# Altium schematic symbol library Разное_discrete.SchLib: 43 symbols
Pins are listed as number, name and electrical type; pins without a type are passive.

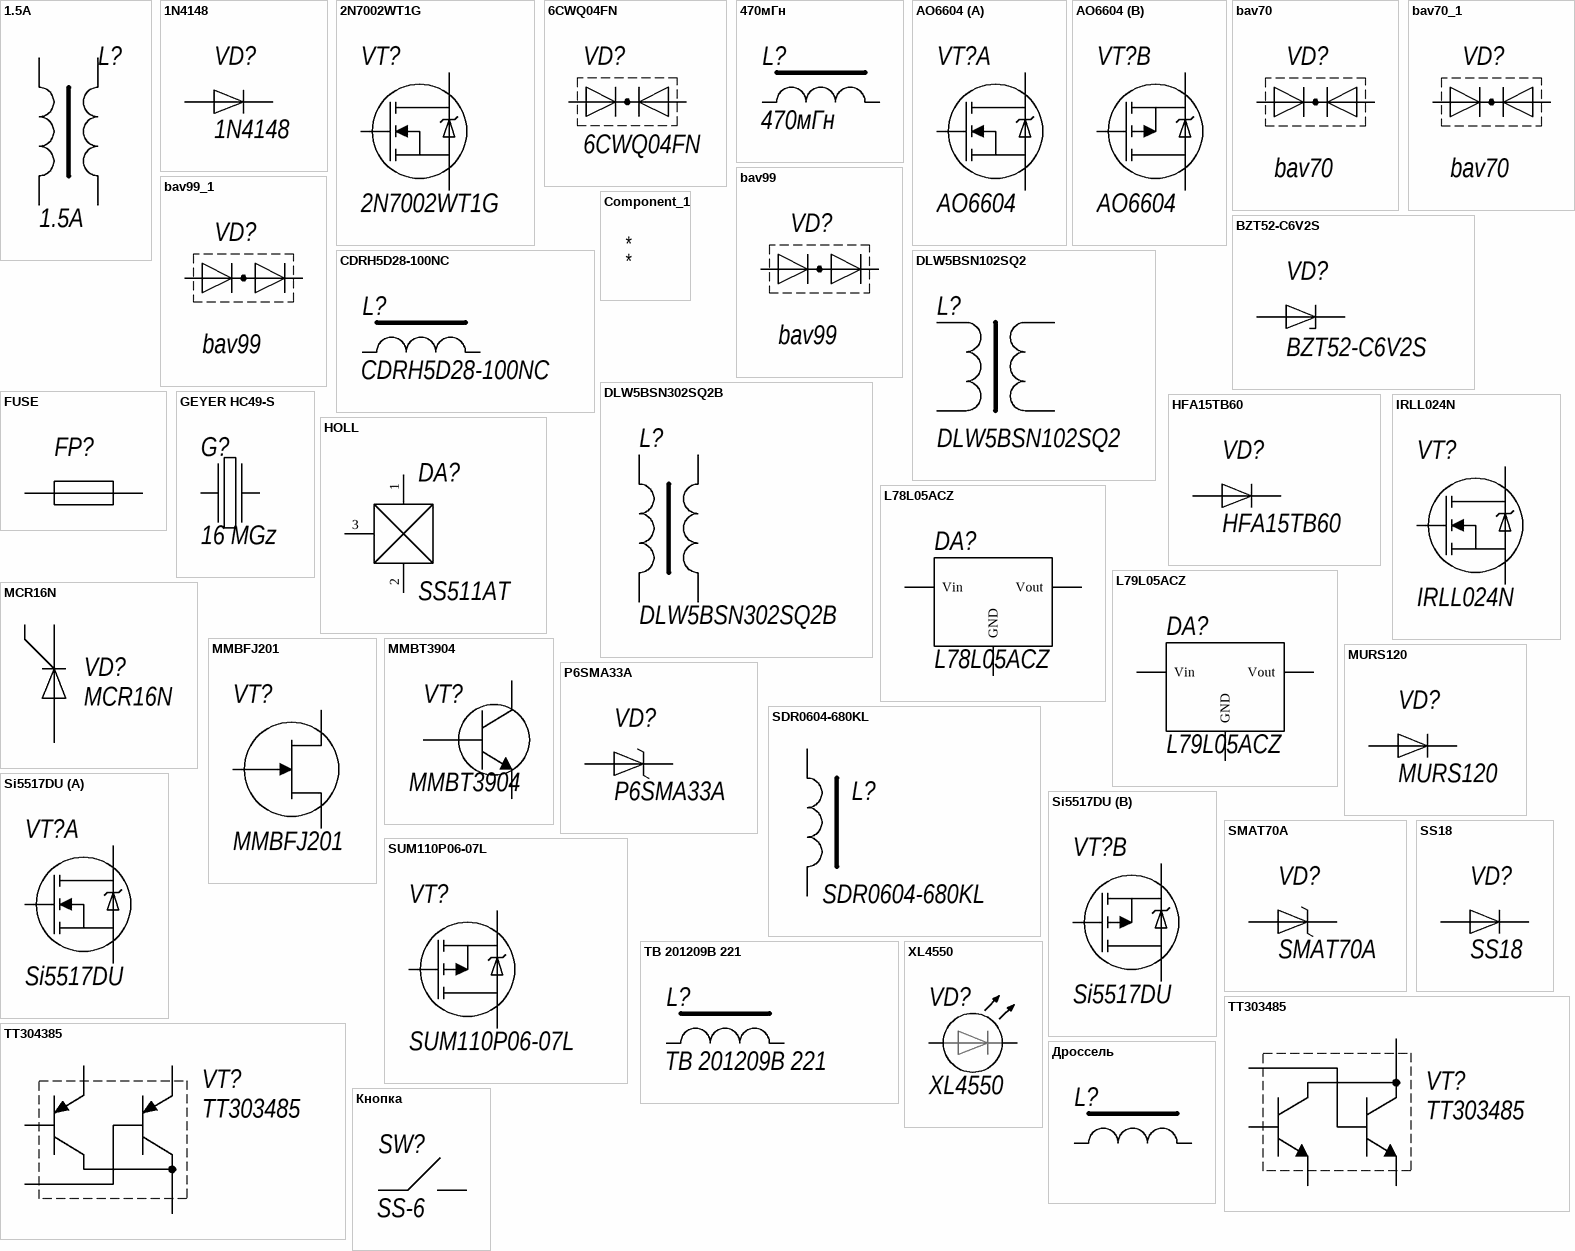
[diagram p0: symbols 1.5A to Кнопка]

## 1.5A
designator L?
Дросель намотаный; LatestRevisionDate: 1.5A; Name: 1.5A; OutComment: 1.5A; PackageDescription: 1.5A; Publisher: IMTP FEB RAS
footprint ХХХ (Дросель намотаный)
footprint Дроссель 19х11х6,7 - синфазный
pins: 1, 1 4, 2, 3

## 1N4148
designator VD?
DIODE; LastRevisionDate: 11.06.2010; Name: 1N4148; OutComment: 1N4148; PackageDescription: Диод 0805; Publisher: IMTP FEB RAS
footprint Диод 0805
pins: 1 Out, 2 IN

## 2N7002WT1G
designator VT?
Транзистор; LastRevisionDate: 11.06.2010; Name: 2N7002WT1G; OutComment: 2N7002WT1G; PackageDescription: TSOP; Publisher: IMTP FEB RAS
footprint SOT-323
pins: 1 G, 2 S, 3 D

## 6CWQ04FN
designator VD?
DIODE; LastRevisionDate: 11.06.2010; Name: 6CWQ04FN; OutComment: 6CWQ04FN; PackageDescription: d-pak; Publisher: IMTP FEB RAS
footprint TO-252AA (D-PAK/TO-252-AA; 3 Leads (1 Cropped); Body 10.4 (inc. leads) x 6.7 mm (LxW max))
pins: 1, 3, 4

## 470мГн
designator L?
Индуктивность; LatestRevisionDate: 25.03.2010; Name: 470мГн; OutComment: 470мГн; PackageDescription: SMD; Publisher: IMTP FEB RAS
pins: 1, 2

## AO6604
designator VT?
Транзистор; LastRevisionDate: 11.06.2010; Name: AO6604; OutComment: AO6604; PackageDescription: TSOP; Publisher: IMTP FEB RAS
footprint TSOP6 (TSOP, 8-Leads, Body 3x3mm, Pitch 0.65mm, IPC Medium Density)
part A pins: 1 G, 5 S, 6 D
part B pins: 2 D, 3 G, 4 S

## bav70
designator VD?
DIODE; LastRevisionDate: 11.06.2010; Name: bav70; OutComment: bav70; PackageDescription: SOT-23; Publisher: IMTP FEB RAS
footprint SOT-23 (SOT-23; 3 Leads; Body 3.0 x 2.6 mm, inc. leads (LxW max))
pins: 1, 2, 3

## bav70_1
designator VD?, comment bav70
DIODE; LastRevisionDate: 11.06.2010; Name: bav70; OutComment: bav70; PackageDescription: SOT-23; Publisher: IMTP FEB RAS
footprint SOT-23 (SOT-23; 3 Leads; Body 3.0 x 2.6 mm, inc. leads (LxW max))
pins: 1, 2, 3

## bav99
designator VD?
DIODE; LastRevisionDate: 11.06.2010; Name: bav99; OutComment: bav99; PackageDescription: SOT-23; Publisher: IMTP FEB RAS
footprint SOT-23 (SOT-23; 3 Leads; Body 3.0 x 2.6 mm, inc. leads (LxW max))
pins: 1, 2, 3

## bav99_1
designator VD?, comment bav99
DIODE; LastRevisionDate: 11.06.2010; Name: bav99; OutComment: bav99; PackageDescription: SOT-23; Publisher: IMTP FEB RAS
footprint SOT-23 (SOT-23; 3 Leads; Body 3.0 x 2.6 mm, inc. leads (LxW max))
pins: 1, 2, 3

## BZT52-C6V2S
designator VD?
Стабилитрон; LastRevisionDate: 11.06.2010; Name: BZT52-C6V2S; OutComment: BZT52-C6V2S; PackageDescription: Диод 0805; Publisher: IMTP FEB RAS
footprint Диод 0805
footprint SMB (DO-214-AA/SMB; 2 C-Bend Leads; Body 5.3 x 3.6 mm, inc. leads (LxW))
pins: 1 Out, 2 IN

## CDRH5D28-100NC
designator L?
Индуктивный фильтр; LatestRevisionDate: 25.03.2010; Name: CDRH5D28-100NC; OutComment: CDRH5D28-100NC; PackageDescription: SMD; Publisher: IMTP FEB RAS
footprint CDRH5D28-100NC (Дросель СМД)
footprint SDR1005-R68ML (Дросель СМД)
pins: 1, 2

## Component_1
designator *

## DLW5BSN102SQ2
designator L?
Дросель СМД; LatestRevisionDate: DLW5BSN102SQ2; Name: DLW5BSN102SQ2; OutComment: DLW5BSN102SQ2; PackageDescription: XTAL50; Publisher: IMTP FEB RAS
footprint DLW5BSN102Q2 (Дросель СМД)
pins: 1, 2, 3, 4

## DLW5BSN302SQ2B
designator L?
Дросель СМД; LatestRevisionDate: DLW5BSN302SQ2B; Name: DLW5BSN302SQ2B; OutComment: DLW5BSN302SQ2B; PackageDescription: XTAL50; Publisher: IMTP FEB RAS
footprint DLW5BSN302Q2B (Дросель СМД)
pins: 1, 2, 3, 4

## FUSE
designator FP?, comment MF-SM050  (value not drawn)
FUSE; LastRevisionDate: 11.06.2010; Name: MF-SM050; OutComment: MF-SM050; Publisher: IMTP FEB RAS
footprint FUSE
footprint MF-SW030/050/100
pins: 1 Out, 2 IN

## GEYER HC49-S
designator G?, comment 16 MGz
Кварцевый резонатор Geyer; OutComment: GEYER KX-KH 16 МГц; LatestRevisionDate: 25.03.2010; Name: 16 MGz; PackageDescription: XTAL50; Publisher: IMTP FEB RAS
footprint XTAL50
pins: 1, 2

## HFA15TB60
designator VD?
DIODE; LastRevisionDate: 11.06.2010; Name: HFA15TB60; OutComment: HFA15TB60; PackageDescription: Диод 0805; Publisher: IMTP FEB RAS
footprint TO-220 - DIODE
pins: 1 Out, 2 IN

## HOLL
designator DA?, comment SS511AT
HOLL; LastRevisionDate: 11.06.2010; Name: SS511AT; OutComment: SS511AT; PackageDescription: Диод 0805; Publisher: IMTP FEB RAS
pins: 1 +, 2 -, 3 O

## IRLL024N
designator VT?
Транзистор; LastRevisionDate: 11.06.2010; Name: IRLL024N; OutComment: IRLL024N; PackageDescription: TSOP; Publisher: IMTP FEB RAS
footprint SOT223-4L (SOT223, 4-Leads, Body 6.5x3.5mm, Pitch 2.3mm, Lead Span 7mm, IPC High Density)
pins: 1 G, 2 D, 3 S, 4 D

## L78L05ACZ
designator DA?
Стабилизатор; LatestRevisionDate: L78L05ACZ; Name: L78L05ACZ; OutComment: L78L05ACZ; PackageDescription: XTAL50; Publisher: IMTP FEB RAS
footprint L78L05ACZ (стабилизатор)
pins: 1 GND, 2 Vin, 3 Vout

## L79L05ACZ
designator DA?
Стабилизатор; LatestRevisionDate: L79L05ACZ; Name: L79L05ACZ; OutComment: L79L05ACZ; PackageDescription: XTAL50; Publisher: IMTP FEB RAS
footprint L79L05ACZ (стабилизатор)
pins: 1 GND, 2 Vin, 3 Vout

## MCR16N
designator VD?
400W SURFACE MOUNT TRANSIENT VOLTAGE SUPPRESSOR; LastRevisionDate: 11.06.2010; Name: MCR16N; OutComment: MCR16N; PackageDescription: SMB; Publisher: IMTP FEB RAS
footprint TO-220
pins: 1 К, 2 А, 3 УЭ

## MMBFJ201
designator VT?
Транзистор; LastRevisionDate: 11.06.2010; Name: MMBFJ201; OutComment: MMBFJ201; PackageDescription: SOT-23; Publisher: IMTP FEB RAS
footprint SOT-23 (SOT-23; 3 Leads; Body 3.0 x 2.6 mm, inc. leads (LxW max))
pins: 1 D, 2 S, 3 G

## MMBT3904
designator VT?
Транзистор; LastRevisionDate: 11.06.2010; Name: MMBT3904; OutComment: MMBT3904; PackageDescription: SOT-23; Publisher: IMTP FEB RAS
footprint SOT-23 (SOT-23; 3 Leads; Body 3.0 x 2.6 mm, inc. leads (LxW max))
pins: 1 IN, 2 S, 3 Vbb

## MURS120
designator VD?
DIODE; LastRevisionDate: 11.06.2010; Name: MURS120; OutComment: MURS120; PackageDescription: SMB; Publisher: IMTP FEB RAS
footprint SMB (DO-214-AA/SMB; 2 C-Bend Leads; Body 5.3 x 3.6 mm, inc. leads (LxW))
pins: 1 Out, 2 IN

## P6SMA33A
designator VD?
400W SURFACE MOUNT TRANSIENT VOLTAGE SUPPRESSOR; LastRevisionDate: 11.06.2010; Name: P6SMA33A; OutComment: P6SMA33A; PackageDescription: SMB; Publisher: IMTP FEB RAS
footprint SMB (DO-214-AA/SMB; 2 C-Bend Leads; Body 5.3 x 3.6 mm, inc. leads (LxW))
pins: 1 Out, 2 IN

## SDR0604-680KL
designator L?
Дросель СМД; LatestRevisionDate: SDR0604-680KL; Name: SDR0604-680KL; OutComment: SDR0604-680KL; PackageDescription: XTAL50; Publisher: IMTP FEB RAS
footprint SDR0604-680KL (Дросель СМД)
pins: 1, 2

## Si5517DU
designator VT?
Транзистор; LastRevisionDate: 11.06.2010; Name: Si5517DU; OutComment: Si5517DU; PackageDescription: TSOP; Publisher: IMTP FEB RAS
footprint ChipFET
part A pins: 1 S, 2 G, 7 D, 8 D
part B pins: 3 S, 4 G, 5 D, 6 D

## SMAT70A
designator VD?
400W SURFACE MOUNT TRANSIENT VOLTAGE SUPPRESSOR; LastRevisionDate: 11.06.2010; Name: SMAT70A; OutComment: SMAT70A; PackageDescription: SMB; Publisher: IMTP FEB RAS
footprint SMB (DO-214-AA/SMB; 2 C-Bend Leads; Body 5.3 x 3.6 mm, inc. leads (LxW))
pins: 1 Out, 2 IN

## SS18
designator VD?
DIODE; LastRevisionDate: 11.06.2010; Name: SS18; OutComment: SS18; PackageDescription: SMA; Publisher: IMTP FEB RAS
footprint SMA
pins: 1 Out, 2 IN

## SUM110P06-07L
designator VT?
Транзистор; LastRevisionDate: 11.06.2010; Name: SUM110P06-07L; OutComment: SUM110P06-07L; PackageDescription: TSOP; Publisher: IMTP FEB RAS
footprint D2PACK (D2-PAK, 4-Leads, Body 9.2x10.2mm, Pitch 2.54mm, Lead Span 15.4mm, IPC High Density)
pins: 1 G, 2 D, 3 S

## TB 201209B 221
designator L?
Индуктивный фильтр; LatestRevisionDate: 25.03.2010; Name: TB 201209B 221; OutComment: TB 201209B 221; PackageDescription: L0805; Publisher: IMTP FEB RAS
footprint L0805 (Чип резистор; Размер 2 x 1.3 мм (Д x Ш))
pins: 1, 2

## TT303485
designator VT?
Транзистор; LastRevisionDate: 11.06.2010; Name: TT303485; OutComment: TT303485; Publisher: IMTP FEB RAS
pins: 1 IN, 2 S, 3 Vbb, 4 IN, 5 S

## TT304385
designator VT?, comment TT303485
Транзистор; LastRevisionDate: 11.06.2010; Name: TT303485; OutComment: TT303485; Publisher: IMTP FEB RAS
pins: 1 IN, 2 Vbb, 3 S, 4 IN, 5 Vbb

## XL4550
designator VD?
DIODE; LastRevisionDate: 11.06.2010; Name: XL4550; OutComment: XL4550; PackageDescription: Диод 0805; Publisher: IMTP FEB RAS
footprint xl4550
pins: 1 Out, 2 IN

## Дроссель
designator L?
Индуктивный фильтр; LatestRevisionDate: 25.03.2010; PackageDescription: L0805; Publisher: IMTP FEB RAS
footprint L0805 (Чип резистор; Размер 2 x 1.3 мм (Д x Ш))
pins: 1, 2

## Кнопка
designator SW?, comment SS-6
LatestRevisionDate: 25.03.2010; Name: SS-6; OutComment: SS-6; PackageDescription: L0805; Publisher: IMTP FEB RAS
pins: 0, 1

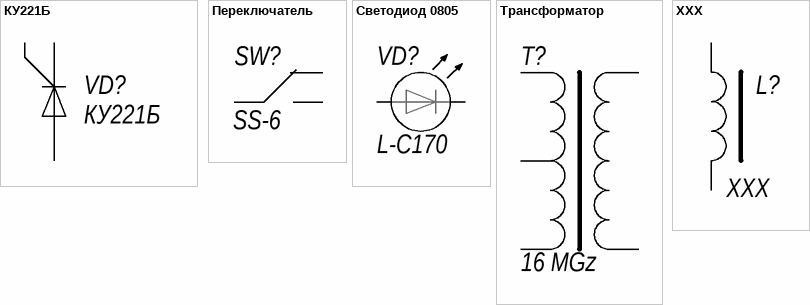
[diagram p1: symbols КУ221Б to ХХХ]

## КУ221Б
designator VD?
400W SURFACE MOUNT TRANSIENT VOLTAGE SUPPRESSOR; LastRevisionDate: 11.06.2010; Name: КУ221Б; OutComment: КУ221Б; PackageDescription: SMB; Publisher: IMTP FEB RAS
footprint КУ221Б
pins: 1 А, 2 К, 3 УЭ

## Переключатель
designator SW?, comment SS-6
LatestRevisionDate: 25.03.2010; Name: SS-6; OutComment: SS-6; PackageDescription: L0805; Publisher: IMTP FEB RAS
footprint SS-6
pins: 0, 1, 2

## Светодиод 0805
designator VD?, comment L-C170
DIODE; LastRevisionDate: 11.06.2010; Name: L-C170; OutComment: L-C170; PackageDescription: Диод 0805; Publisher: IMTP FEB RAS
footprint Светодиод 0805
pins: 1 Out, 2 IN

## Трансформатор
designator T?, comment 16 MGz
Трансформатор импульсный; OutComment: GEYER KX-KH 16 МГц; LatestRevisionDate: 25.03.2010; Name: 16 MGz; PackageDescription: XTAL50; Publisher: IMTP FEB RAS
footprint Трансформатор импульсный
pins: 1, 2, 3, 4, 5

## ХХХ
designator L?
Дросель намотаный; LatestRevisionDate: ХХХ; Name: ХХХ; OutComment: ХХХ; PackageDescription: XTAL50; Publisher: IMTP FEB RAS
footprint ХХХ (Дросель намотаный)
pins: 1, 2